# EAGLE library part AS-ITM-00195 (library tinycircuits)
RF SWITCH IC 3.0V L S BAND SPDT
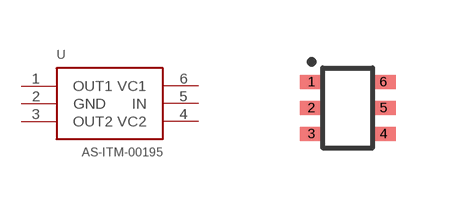
[diagram p84: symbol with the pads of S06; footprint S06]

Designator prefix U

## AS-ITM-00195 (PARTNO: AS-ITM-00195; VALUE: UPG2214TB-E4-A)  [S06]
1  OUT1
2  GND
3  OUT2
4  VC2
5  IN
6  VC1

## Footprint S06 (pad centres in mm)
smd 0.6 x 0.35: 1 -0.9,0.65; 2 -0.9,0; 3 -0.9,-0.65; 4 0.9,-0.65; 5 0.9,0; 6 0.9,0.65